# Altium footprint library con-weidmueller-sl35.PCBLIB: 184 footprints (part 9 of 12)
Each footprint in its own frame and in the unit in brackets; x right, y up, seen from the top. Pads: shape width x height; smd on the part's side, far side on the other; paste and mask are expansions set on the pad; w line width, h text height; cw(c..) or ccw(c..) is an arc to the next point about the centre after c.
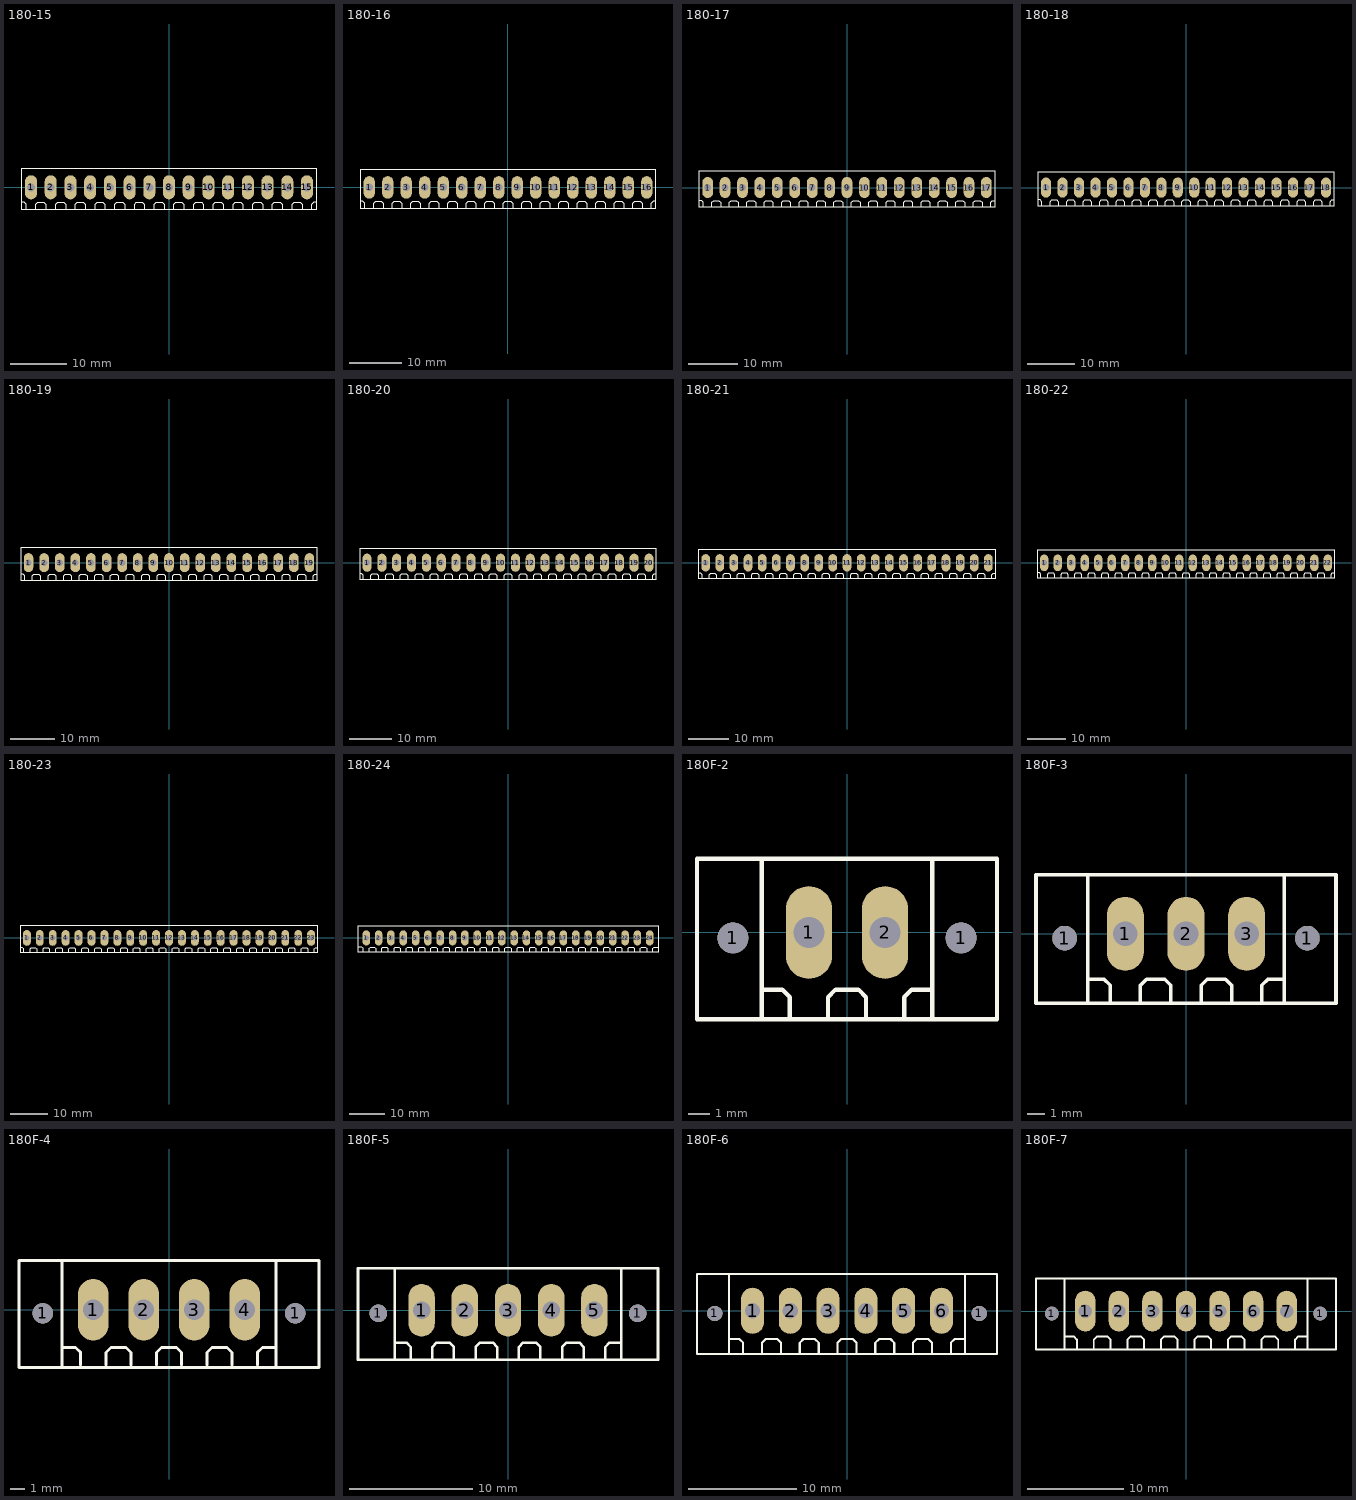
[diagram p8: the footprints below, top view; thin cyan lines are the x and y axes]

## 180-15 [mil]
pads (15):
  oval 84x168 hole 56: 1(-964.57,0) 2(-826.77,0) 3(-688.98,0) 4(-551.18,0) 5(-413.39,0) 6(-275.59,0) 7(-137.8,0) 8(0,0) 9(137.8,0) 10(275.59,0) 11(413.39,0) 12(551.18,0) 13(688.98,0) 14(826.77,0) 15(964.57,0)
Top Overlay:
  lines w8: -1026.57,-103.35 -1012.8,-103.35 -999.02,-117.13 -999.02,-151.57 ; -930.12,-151.57 -930.12,-117.13 -916.34,-103.35 -875,-103.35 -861.22,-117.13 -861.22,-151.57 ; -792.32,-151.57 -792.32,-117.13 -778.54,-103.35 -737.2,-103.35 -723.43,-117.13 -723.43,-151.57 ; -654.53,-151.57 -654.53,-117.13 -640.75,-103.35 -599.41,-103.35 -585.63,-117.13 -585.63,-151.57 ; -516.73,-151.57 -516.73,-117.13 -502.95,-103.35 -461.61,-103.35 -447.83,-117.13 -447.83,-151.57 ; -378.94,-151.57 -378.94,-117.13 -365.16,-103.35 -323.82,-103.35 -310.04,-117.13 -310.04,-151.57 ; -241.14,-151.57 -241.14,-117.13 -227.36,-103.35 -186.02,-103.35 -172.24,-117.13 -172.24,-151.57 ; -103.35,-151.57 -103.35,-117.13 -89.57,-103.35 -48.23,-103.35 -34.45,-117.13 -34.45,-151.57 ; 34.45,-151.57 34.45,-117.13 48.23,-103.35 89.57,-103.35 103.35,-117.13 103.35,-151.57 ; 172.24,-151.57 172.24,-117.13 186.02,-103.35 227.36,-103.35 241.14,-117.13 241.14,-151.57 ; 310.04,-151.57 310.04,-117.13 323.82,-103.35 365.16,-103.35 378.94,-117.13 378.94,-151.57 ; 447.83,-151.57 447.83,-117.13 461.61,-103.35 502.95,-103.35 516.73,-117.13 516.73,-151.57 ; 585.63,-151.57 585.63,-117.13 599.41,-103.35 640.75,-103.35 654.53,-117.13 654.53,-151.57 ; 723.43,-151.57 723.43,-117.13 737.2,-103.35 778.54,-103.35 792.32,-117.13 792.32,-151.57 ; 861.22,-151.57 861.22,-117.13 875,-103.35 916.34,-103.35 930.12,-117.13 930.12,-151.57 ; 999.02,-151.57 999.02,-117.13 1012.8,-103.35 1026.57,-103.35 ; -1029.53,-157.48 1029.53,-157.48 1029.53,133.86 -1029.53,133.86 -1029.53,-157.48

## 180-16 [mil]
pads (16):
  oval 84x168 hole 56: 1(-1033.46,0) 2(-895.67,0) 3(-757.87,0) 4(-620.08,0) 5(-482.28,0) 6(-344.49,0) 7(-206.69,0) 8(-68.9,0) 9(68.9,0) 10(206.69,0) 11(344.49,0) 12(482.28,0) 13(620.08,0) 14(757.87,0) 15(895.67,0) 16(1033.46,0)
Top Overlay:
  lines w8: -1095.47,-103.35 -1081.69,-103.35 -1067.91,-117.13 -1067.91,-151.57 ; -999.02,-151.57 -999.02,-117.13 -985.24,-103.35 -943.9,-103.35 -930.12,-117.13 -930.12,-151.57 ; -861.22,-151.57 -861.22,-117.13 -847.44,-103.35 -806.1,-103.35 -792.32,-117.13 -792.32,-151.57 ; -723.43,-151.57 -723.43,-117.13 -709.65,-103.35 -668.31,-103.35 -654.53,-117.13 -654.53,-151.57 ; -585.63,-151.57 -585.63,-117.13 -571.85,-103.35 -530.51,-103.35 -516.73,-117.13 -516.73,-151.57 ; -447.83,-151.57 -447.83,-117.13 -434.06,-103.35 -392.72,-103.35 -378.94,-117.13 -378.94,-151.57 ; -310.04,-151.57 -310.04,-117.13 -296.26,-103.35 -254.92,-103.35 -241.14,-117.13 -241.14,-151.57 ; -172.24,-151.57 -172.24,-117.13 -158.46,-103.35 -117.13,-103.35 -103.35,-117.13 -103.35,-151.57 ; -34.45,-151.57 -34.45,-117.13 -20.67,-103.35 20.67,-103.35 34.45,-117.13 34.45,-151.57 ; 103.35,-151.57 103.35,-117.13 117.13,-103.35 158.46,-103.35 172.24,-117.13 172.24,-151.57 ; 241.14,-151.57 241.14,-117.13 254.92,-103.35 296.26,-103.35 310.04,-117.13 310.04,-151.57 ; 378.94,-151.57 378.94,-117.13 392.72,-103.35 434.06,-103.35 447.83,-117.13 447.83,-151.57 ; 516.73,-151.57 516.73,-117.13 530.51,-103.35 571.85,-103.35 585.63,-117.13 585.63,-151.57 ; 654.53,-151.57 654.53,-117.13 668.31,-103.35 709.65,-103.35 723.43,-117.13 723.43,-151.57 ; 792.32,-151.57 792.32,-117.13 806.1,-103.35 847.44,-103.35 861.22,-117.13 861.22,-151.57 ; 930.12,-151.57 930.12,-117.13 943.9,-103.35 985.24,-103.35 999.02,-117.13 999.02,-151.57 ; 1067.91,-151.57 1067.91,-117.13 1081.69,-103.35 1095.47,-103.35 ; -1098.43,-157.48 1098.43,-157.48 1098.43,133.86 -1098.43,133.86 -1098.43,-157.48

## 180-17 [mil]
pads (17):
  oval 84x168 hole 56: 1(-1102.36,0) 2(-964.57,0) 3(-826.77,0) 4(-688.98,0) 5(-551.18,0) 6(-413.39,0) 7(-275.59,0) 8(-137.8,0) 9(0,0) 10(137.8,0) 11(275.59,0) 12(413.39,0) 13(551.18,0) 14(688.98,0) 15(826.77,0) 16(964.57,0) 17(1102.36,0)
Top Overlay:
  lines w8: -1164.37,-103.35 -1150.59,-103.35 -1136.81,-117.13 -1136.81,-151.57 ; -1067.91,-151.57 -1067.91,-117.13 -1054.13,-103.35 -1012.8,-103.35 -999.02,-117.13 -999.02,-151.57 ; -930.12,-151.57 -930.12,-117.13 -916.34,-103.35 -875,-103.35 -861.22,-117.13 -861.22,-151.57 ; -792.32,-151.57 -792.32,-117.13 -778.54,-103.35 -737.2,-103.35 -723.43,-117.13 -723.43,-151.57 ; -654.53,-151.57 -654.53,-117.13 -640.75,-103.35 -599.41,-103.35 -585.63,-117.13 -585.63,-151.57 ; -516.73,-151.57 -516.73,-117.13 -502.95,-103.35 -461.61,-103.35 -447.83,-117.13 -447.83,-151.57 ; -378.94,-151.57 -378.94,-117.13 -365.16,-103.35 -323.82,-103.35 -310.04,-117.13 -310.04,-151.57 ; -241.14,-151.57 -241.14,-117.13 -227.36,-103.35 -186.02,-103.35 -172.24,-117.13 -172.24,-151.57 ; -103.35,-151.57 -103.35,-117.13 -89.57,-103.35 -48.23,-103.35 -34.45,-117.13 -34.45,-151.57 ; 34.45,-151.57 34.45,-117.13 48.23,-103.35 89.57,-103.35 103.35,-117.13 103.35,-151.57 ; 172.24,-151.57 172.24,-117.13 186.02,-103.35 227.36,-103.35 241.14,-117.13 241.14,-151.57 ; 310.04,-151.57 310.04,-117.13 323.82,-103.35 365.16,-103.35 378.94,-117.13 378.94,-151.57 ; 447.83,-151.57 447.83,-117.13 461.61,-103.35 502.95,-103.35 516.73,-117.13 516.73,-151.57 ; 585.63,-151.57 585.63,-117.13 599.41,-103.35 640.75,-103.35 654.53,-117.13 654.53,-151.57 ; 723.43,-151.57 723.43,-117.13 737.2,-103.35 778.54,-103.35 792.32,-117.13 792.32,-151.57 ; 861.22,-151.57 861.22,-117.13 875,-103.35 916.34,-103.35 930.12,-117.13 930.12,-151.57 ; 999.02,-151.57 999.02,-117.13 1012.8,-103.35 1054.13,-103.35 1067.91,-117.13 1067.91,-151.57 ; 1136.81,-151.57 1136.81,-117.13 1150.59,-103.35 1164.37,-103.35 ; -1167.32,-157.48 1167.32,-157.48 1167.32,133.86 -1167.32,133.86 -1167.32,-157.48

## 180-18 [mil]
pads (18):
  oval 84x168 hole 56: 1(-1171.26,0) 2(-1033.46,0) 3(-895.67,0) 4(-757.87,0) 5(-620.08,0) 6(-482.28,0) 7(-344.49,0) 8(-206.69,0) 9(-68.9,0) 10(68.9,0) 11(206.69,0) 12(344.49,0) 13(482.28,0) 14(620.08,0) 15(757.87,0) 16(895.67,0) 17(1033.46,0) 18(1171.26,0)
Top Overlay:
  lines w8: -1233.27,-103.35 -1219.49,-103.35 -1205.71,-117.13 -1205.71,-151.57 ; -1136.81,-151.57 -1136.81,-117.13 -1123.03,-103.35 -1081.69,-103.35 -1067.91,-117.13 -1067.91,-151.57 ; -999.02,-151.57 -999.02,-117.13 -985.24,-103.35 -943.9,-103.35 -930.12,-117.13 -930.12,-151.57 ; -861.22,-151.57 -861.22,-117.13 -847.44,-103.35 -806.1,-103.35 -792.32,-117.13 -792.32,-151.57 ; -723.43,-151.57 -723.43,-117.13 -709.65,-103.35 -668.31,-103.35 -654.53,-117.13 -654.53,-151.57 ; -585.63,-151.57 -585.63,-117.13 -571.85,-103.35 -530.51,-103.35 -516.73,-117.13 -516.73,-151.57 ; -447.83,-151.57 -447.83,-117.13 -434.06,-103.35 -392.72,-103.35 -378.94,-117.13 -378.94,-151.57 ; -310.04,-151.57 -310.04,-117.13 -296.26,-103.35 -254.92,-103.35 -241.14,-117.13 -241.14,-151.57 ; -172.24,-151.57 -172.24,-117.13 -158.46,-103.35 -117.13,-103.35 -103.35,-117.13 -103.35,-151.57 ; -34.45,-151.57 -34.45,-117.13 -20.67,-103.35 20.67,-103.35 34.45,-117.13 34.45,-151.57 ; 103.35,-151.57 103.35,-117.13 117.13,-103.35 158.46,-103.35 172.24,-117.13 172.24,-151.57 ; 241.14,-151.57 241.14,-117.13 254.92,-103.35 296.26,-103.35 310.04,-117.13 310.04,-151.57 ; 378.94,-151.57 378.94,-117.13 392.72,-103.35 434.06,-103.35 447.83,-117.13 447.83,-151.57 ; 516.73,-151.57 516.73,-117.13 530.51,-103.35 571.85,-103.35 585.63,-117.13 585.63,-151.57 ; 654.53,-151.57 654.53,-117.13 668.31,-103.35 709.65,-103.35 723.43,-117.13 723.43,-151.57 ; 792.32,-151.57 792.32,-117.13 806.1,-103.35 847.44,-103.35 861.22,-117.13 861.22,-151.57 ; 930.12,-151.57 930.12,-117.13 943.9,-103.35 985.24,-103.35 999.02,-117.13 999.02,-151.57 ; 1067.91,-151.57 1067.91,-117.13 1081.69,-103.35 1123.03,-103.35 1136.81,-117.13 1136.81,-151.57 ; 1205.71,-151.57 1205.71,-117.13 1219.49,-103.35 1233.27,-103.35 ; -1236.22,-157.48 1236.22,-157.48 1236.22,133.86 -1236.22,133.86 -1236.22,-157.48

## 180-19 [mil]
pads (19):
  oval 84x168 hole 56: 1(-1240.16,0) 2(-1102.36,0) 3(-964.57,0) 4(-826.77,0) 5(-688.98,0) 6(-551.18,0) 7(-413.39,0) 8(-275.59,0) 9(-137.8,0) 10(0,0) 11(137.8,0) 12(275.59,0) 13(413.39,0) 14(551.18,0) 15(688.98,0) 16(826.77,0) 17(964.57,0) 18(1102.36,0) 19(1240.16,0)
Top Overlay:
  lines w8: -1302.17,-103.35 -1288.39,-103.35 -1274.61,-117.13 -1274.61,-151.57 ; -1205.71,-151.57 -1205.71,-117.13 -1191.93,-103.35 -1150.59,-103.35 -1136.81,-117.13 -1136.81,-151.57 ; -1067.91,-151.57 -1067.91,-117.13 -1054.13,-103.35 -1012.8,-103.35 -999.02,-117.13 -999.02,-151.57 ; -930.12,-151.57 -930.12,-117.13 -916.34,-103.35 -875,-103.35 -861.22,-117.13 -861.22,-151.57 ; -792.32,-151.57 -792.32,-117.13 -778.54,-103.35 -737.2,-103.35 -723.43,-117.13 -723.43,-151.57 ; -654.53,-151.57 -654.53,-117.13 -640.75,-103.35 -599.41,-103.35 -585.63,-117.13 -585.63,-151.57 ; -516.73,-151.57 -516.73,-117.13 -502.95,-103.35 -461.61,-103.35 -447.83,-117.13 -447.83,-151.57 ; -378.94,-151.57 -378.94,-117.13 -365.16,-103.35 -323.82,-103.35 -310.04,-117.13 -310.04,-151.57 ; -241.14,-151.57 -241.14,-117.13 -227.36,-103.35 -186.02,-103.35 -172.24,-117.13 -172.24,-151.57 ; -103.35,-151.57 -103.35,-117.13 -89.57,-103.35 -48.23,-103.35 -34.45,-117.13 -34.45,-151.57 ; 34.45,-151.57 34.45,-117.13 48.23,-103.35 89.57,-103.35 103.35,-117.13 103.35,-151.57 ; 172.24,-151.57 172.24,-117.13 186.02,-103.35 227.36,-103.35 241.14,-117.13 241.14,-151.57 ; 310.04,-151.57 310.04,-117.13 323.82,-103.35 365.16,-103.35 378.94,-117.13 378.94,-151.57 ; 447.83,-151.57 447.83,-117.13 461.61,-103.35 502.95,-103.35 516.73,-117.13 516.73,-151.57 ; 585.63,-151.57 585.63,-117.13 599.41,-103.35 640.75,-103.35 654.53,-117.13 654.53,-151.57 ; 723.43,-151.57 723.43,-117.13 737.2,-103.35 778.54,-103.35 792.32,-117.13 792.32,-151.57 ; 861.22,-151.57 861.22,-117.13 875,-103.35 916.34,-103.35 930.12,-117.13 930.12,-151.57 ; 999.02,-151.57 999.02,-117.13 1012.8,-103.35 1054.13,-103.35 1067.91,-117.13 1067.91,-151.57 ; 1136.81,-151.57 1136.81,-117.13 1150.59,-103.35 1191.93,-103.35 1205.71,-117.13 1205.71,-151.57 ; 1274.61,-151.57 1274.61,-117.13 1288.39,-103.35 1302.17,-103.35 ; -1305.12,-157.48 1305.12,-157.48 1305.12,133.86 -1305.12,133.86 -1305.12,-157.48

## 180-20 [mil]
pads (20):
  oval 84x168 hole 56: 1(-1309.06,0) 2(-1171.26,0) 3(-1033.46,0) 4(-895.67,0) 5(-757.87,0) 6(-620.08,0) 7(-482.28,0) 8(-344.49,0) 9(-206.69,0) 10(-68.9,0) 11(68.9,0) 12(206.69,0) 13(344.49,0) 14(482.28,0) 15(620.08,0) 16(757.87,0) 17(895.67,0) 18(1033.46,0) 19(1171.26,0) 20(1309.06,0)
Top Overlay:
  lines w8: -1371.06,-103.35 -1357.28,-103.35 -1343.5,-117.13 -1343.5,-151.57 ; -1274.61,-151.57 -1274.61,-117.13 -1260.83,-103.35 -1219.49,-103.35 -1205.71,-117.13 -1205.71,-151.57 ; -1136.81,-151.57 -1136.81,-117.13 -1123.03,-103.35 -1081.69,-103.35 -1067.91,-117.13 -1067.91,-151.57 ; -999.02,-151.57 -999.02,-117.13 -985.24,-103.35 -943.9,-103.35 -930.12,-117.13 -930.12,-151.57 ; -861.22,-151.57 -861.22,-117.13 -847.44,-103.35 -806.1,-103.35 -792.32,-117.13 -792.32,-151.57 ; -723.43,-151.57 -723.43,-117.13 -709.65,-103.35 -668.31,-103.35 -654.53,-117.13 -654.53,-151.57 ; -585.63,-151.57 -585.63,-117.13 -571.85,-103.35 -530.51,-103.35 -516.73,-117.13 -516.73,-151.57 ; -447.83,-151.57 -447.83,-117.13 -434.06,-103.35 -392.72,-103.35 -378.94,-117.13 -378.94,-151.57 ; -310.04,-151.57 -310.04,-117.13 -296.26,-103.35 -254.92,-103.35 -241.14,-117.13 -241.14,-151.57 ; -172.24,-151.57 -172.24,-117.13 -158.46,-103.35 -117.13,-103.35 -103.35,-117.13 -103.35,-151.57 ; -34.45,-151.57 -34.45,-117.13 -20.67,-103.35 20.67,-103.35 34.45,-117.13 34.45,-151.57 ; 103.35,-151.57 103.35,-117.13 117.13,-103.35 158.46,-103.35 172.24,-117.13 172.24,-151.57 ; 241.14,-151.57 241.14,-117.13 254.92,-103.35 296.26,-103.35 310.04,-117.13 310.04,-151.57 ; 378.94,-151.57 378.94,-117.13 392.72,-103.35 434.06,-103.35 447.83,-117.13 447.83,-151.57 ; 516.73,-151.57 516.73,-117.13 530.51,-103.35 571.85,-103.35 585.63,-117.13 585.63,-151.57 ; 654.53,-151.57 654.53,-117.13 668.31,-103.35 709.65,-103.35 723.43,-117.13 723.43,-151.57 ; 792.32,-151.57 792.32,-117.13 806.1,-103.35 847.44,-103.35 861.22,-117.13 861.22,-151.57 ; 930.12,-151.57 930.12,-117.13 943.9,-103.35 985.24,-103.35 999.02,-117.13 999.02,-151.57 ; 1067.91,-151.57 1067.91,-117.13 1081.69,-103.35 1123.03,-103.35 1136.81,-117.13 1136.81,-151.57 ; 1205.71,-151.57 1205.71,-117.13 1219.49,-103.35 1260.83,-103.35 1274.61,-117.13 1274.61,-151.57 ; 1343.5,-151.57 1343.5,-117.13 1357.28,-103.35 1371.06,-103.35 ; -1374.02,-157.48 1374.02,-157.48 1374.02,133.86 -1374.02,133.86 -1374.02,-157.48

## 180-21 [mil]
pads (21):
  oval 84x168 hole 56: 1(-1377.95,0) 2(-1240.16,0) 3(-1102.36,0) 4(-964.57,0) 5(-826.77,0) 6(-688.98,0) 7(-551.18,0) 8(-413.39,0) 9(-275.59,0) 10(-137.8,0) 11(0,0) 12(137.8,0) 13(275.59,0) 14(413.39,0) 15(551.18,0) 16(688.98,0) 17(826.77,0) 18(964.57,0) 19(1102.36,0) 20(1240.16,0) 21(1377.95,0)
Top Overlay:
  lines w8: -1439.96,-103.35 -1426.18,-103.35 -1412.4,-117.13 -1412.4,-151.57 ; -1343.5,-151.57 -1343.5,-117.13 -1329.72,-103.35 -1288.39,-103.35 -1274.61,-117.13 -1274.61,-151.57 ; -1205.71,-151.57 -1205.71,-117.13 -1191.93,-103.35 -1150.59,-103.35 -1136.81,-117.13 -1136.81,-151.57 ; -1067.91,-151.57 -1067.91,-117.13 -1054.13,-103.35 -1012.8,-103.35 -999.02,-117.13 -999.02,-151.57 ; -930.12,-151.57 -930.12,-117.13 -916.34,-103.35 -875,-103.35 -861.22,-117.13 -861.22,-151.57 ; -792.32,-151.57 -792.32,-117.13 -778.54,-103.35 -737.2,-103.35 -723.43,-117.13 -723.43,-151.57 ; -654.53,-151.57 -654.53,-117.13 -640.75,-103.35 -599.41,-103.35 -585.63,-117.13 -585.63,-151.57 ; -516.73,-151.57 -516.73,-117.13 -502.95,-103.35 -461.61,-103.35 -447.83,-117.13 -447.83,-151.57 ; -378.94,-151.57 -378.94,-117.13 -365.16,-103.35 -323.82,-103.35 -310.04,-117.13 -310.04,-151.57 ; -241.14,-151.57 -241.14,-117.13 -227.36,-103.35 -186.02,-103.35 -172.24,-117.13 -172.24,-151.57 ; -103.35,-151.57 -103.35,-117.13 -89.57,-103.35 -48.23,-103.35 -34.45,-117.13 -34.45,-151.57 ; 34.45,-151.57 34.45,-117.13 48.23,-103.35 89.57,-103.35 103.35,-117.13 103.35,-151.57 ; 172.24,-151.57 172.24,-117.13 186.02,-103.35 227.36,-103.35 241.14,-117.13 241.14,-151.57 ; 310.04,-151.57 310.04,-117.13 323.82,-103.35 365.16,-103.35 378.94,-117.13 378.94,-151.57 ; 447.83,-151.57 447.83,-117.13 461.61,-103.35 502.95,-103.35 516.73,-117.13 516.73,-151.57 ; 585.63,-151.57 585.63,-117.13 599.41,-103.35 640.75,-103.35 654.53,-117.13 654.53,-151.57 ; 723.43,-151.57 723.43,-117.13 737.2,-103.35 778.54,-103.35 792.32,-117.13 792.32,-151.57 ; 861.22,-151.57 861.22,-117.13 875,-103.35 916.34,-103.35 930.12,-117.13 930.12,-151.57 ; 999.02,-151.57 999.02,-117.13 1012.8,-103.35 1054.13,-103.35 1067.91,-117.13 1067.91,-151.57 ; 1136.81,-151.57 1136.81,-117.13 1150.59,-103.35 1191.93,-103.35 1205.71,-117.13 1205.71,-151.57 ; 1274.61,-151.57 1274.61,-117.13 1288.39,-103.35 1329.72,-103.35 1343.5,-117.13 1343.5,-151.57 ; 1412.4,-151.57 1412.4,-117.13 1426.18,-103.35 1439.96,-103.35 ; -1442.91,-157.48 1442.91,-157.48 1442.91,133.86 -1442.91,133.86 -1442.91,-157.48

## 180-22 [mil]
pads (22):
  oval 84x168 hole 56: 1(-1446.85,0) 2(-1309.06,0) 3(-1171.26,0) 4(-1033.46,0) 5(-895.67,0) 6(-757.87,0) 7(-620.08,0) 8(-482.28,0) 9(-344.49,0) 10(-206.69,0) 11(-68.9,0) 12(68.9,0) 13(206.69,0) 14(344.49,0) 15(482.28,0) 16(620.08,0) 17(757.87,0) 18(895.67,0) 19(1033.46,0) 20(1171.26,0) 21(1309.06,0) 22(1446.85,0)
Top Overlay:
  lines w8: -1508.86,-103.35 -1495.08,-103.35 -1481.3,-117.13 -1481.3,-151.57 ; -1412.4,-151.57 -1412.4,-117.13 -1398.62,-103.35 -1357.28,-103.35 -1343.5,-117.13 -1343.5,-151.57 ; -1274.61,-151.57 -1274.61,-117.13 -1260.83,-103.35 -1219.49,-103.35 -1205.71,-117.13 -1205.71,-151.57 ; -1136.81,-151.57 -1136.81,-117.13 -1123.03,-103.35 -1081.69,-103.35 -1067.91,-117.13 -1067.91,-151.57 ; -999.02,-151.57 -999.02,-117.13 -985.24,-103.35 -943.9,-103.35 -930.12,-117.13 -930.12,-151.57 ; -861.22,-151.57 -861.22,-117.13 -847.44,-103.35 -806.1,-103.35 -792.32,-117.13 -792.32,-151.57 ; -723.43,-151.57 -723.43,-117.13 -709.65,-103.35 -668.31,-103.35 -654.53,-117.13 -654.53,-151.57 ; -585.63,-151.57 -585.63,-117.13 -571.85,-103.35 -530.51,-103.35 -516.73,-117.13 -516.73,-151.57 ; -447.83,-151.57 -447.83,-117.13 -434.06,-103.35 -392.72,-103.35 -378.94,-117.13 -378.94,-151.57 ; -310.04,-151.57 -310.04,-117.13 -296.26,-103.35 -254.92,-103.35 -241.14,-117.13 -241.14,-151.57 ; -172.24,-151.57 -172.24,-117.13 -158.46,-103.35 -117.13,-103.35 -103.35,-117.13 -103.35,-151.57 ; -34.45,-151.57 -34.45,-117.13 -20.67,-103.35 20.67,-103.35 34.45,-117.13 34.45,-151.57 ; 103.35,-151.57 103.35,-117.13 117.13,-103.35 158.46,-103.35 172.24,-117.13 172.24,-151.57 ; 241.14,-151.57 241.14,-117.13 254.92,-103.35 296.26,-103.35 310.04,-117.13 310.04,-151.57 ; 378.94,-151.57 378.94,-117.13 392.72,-103.35 434.06,-103.35 447.83,-117.13 447.83,-151.57 ; 516.73,-151.57 516.73,-117.13 530.51,-103.35 571.85,-103.35 585.63,-117.13 585.63,-151.57 ; 654.53,-151.57 654.53,-117.13 668.31,-103.35 709.65,-103.35 723.43,-117.13 723.43,-151.57 ; 792.32,-151.57 792.32,-117.13 806.1,-103.35 847.44,-103.35 861.22,-117.13 861.22,-151.57 ; 930.12,-151.57 930.12,-117.13 943.9,-103.35 985.24,-103.35 999.02,-117.13 999.02,-151.57 ; 1067.91,-151.57 1067.91,-117.13 1081.69,-103.35 1123.03,-103.35 1136.81,-117.13 1136.81,-151.57 ; 1205.71,-151.57 1205.71,-117.13 1219.49,-103.35 1260.83,-103.35 1274.61,-117.13 1274.61,-151.57 ; 1343.5,-151.57 1343.5,-117.13 1357.28,-103.35 1398.62,-103.35 1412.4,-117.13 1412.4,-151.57 ; 1481.3,-151.57 1481.3,-117.13 1495.08,-103.35 1508.86,-103.35 ; -1511.81,-157.48 1511.81,-157.48 1511.81,133.86 -1511.81,133.86 -1511.81,-157.48

## 180-23 [mil]
pads (23):
  oval 84x168 hole 56: 1(-1515.75,0) 2(-1377.95,0) 3(-1240.16,0) 4(-1102.36,0) 5(-964.57,0) 6(-826.77,0) 7(-688.98,0) 8(-551.18,0) 9(-413.39,0) 10(-275.59,0) 11(-137.8,0) 12(0,0) 13(137.8,0) 14(275.59,0) 15(413.39,0) 16(551.18,0) 17(688.98,0) 18(826.77,0) 19(964.57,0) 20(1102.36,0) 21(1240.16,0) 22(1377.95,0) 23(1515.75,0)
Top Overlay:
  lines w8: -1577.76,-103.35 -1563.98,-103.35 -1550.2,-117.13 -1550.2,-151.57 ; -1481.3,-151.57 -1481.3,-117.13 -1467.52,-103.35 -1426.18,-103.35 -1412.4,-117.13 -1412.4,-151.57 ; -1343.5,-151.57 -1343.5,-117.13 -1329.72,-103.35 -1288.39,-103.35 -1274.61,-117.13 -1274.61,-151.57 ; -1205.71,-151.57 -1205.71,-117.13 -1191.93,-103.35 -1150.59,-103.35 -1136.81,-117.13 -1136.81,-151.57 ; -1067.91,-151.57 -1067.91,-117.13 -1054.13,-103.35 -1012.8,-103.35 -999.02,-117.13 -999.02,-151.57 ; -930.12,-151.57 -930.12,-117.13 -916.34,-103.35 -875,-103.35 -861.22,-117.13 -861.22,-151.57 ; -792.32,-151.57 -792.32,-117.13 -778.54,-103.35 -737.2,-103.35 -723.43,-117.13 -723.43,-151.57 ; -654.53,-151.57 -654.53,-117.13 -640.75,-103.35 -599.41,-103.35 -585.63,-117.13 -585.63,-151.57 ; -516.73,-151.57 -516.73,-117.13 -502.95,-103.35 -461.61,-103.35 -447.83,-117.13 -447.83,-151.57 ; -378.94,-151.57 -378.94,-117.13 -365.16,-103.35 -323.82,-103.35 -310.04,-117.13 -310.04,-151.57 ; -241.14,-151.57 -241.14,-117.13 -227.36,-103.35 -186.02,-103.35 -172.24,-117.13 -172.24,-151.57 ; -103.35,-151.57 -103.35,-117.13 -89.57,-103.35 -48.23,-103.35 -34.45,-117.13 -34.45,-151.57 ; 34.45,-151.57 34.45,-117.13 48.23,-103.35 89.57,-103.35 103.35,-117.13 103.35,-151.57 ; 172.24,-151.57 172.24,-117.13 186.02,-103.35 227.36,-103.35 241.14,-117.13 241.14,-151.57 ; 310.04,-151.57 310.04,-117.13 323.82,-103.35 365.16,-103.35 378.94,-117.13 378.94,-151.57 ; 447.83,-151.57 447.83,-117.13 461.61,-103.35 502.95,-103.35 516.73,-117.13 516.73,-151.57 ; 585.63,-151.57 585.63,-117.13 599.41,-103.35 640.75,-103.35 654.53,-117.13 654.53,-151.57 ; 723.43,-151.57 723.43,-117.13 737.2,-103.35 778.54,-103.35 792.32,-117.13 792.32,-151.57 ; 861.22,-151.57 861.22,-117.13 875,-103.35 916.34,-103.35 930.12,-117.13 930.12,-151.57 ; 999.02,-151.57 999.02,-117.13 1012.8,-103.35 1054.13,-103.35 1067.91,-117.13 1067.91,-151.57 ; 1136.81,-151.57 1136.81,-117.13 1150.59,-103.35 1191.93,-103.35 1205.71,-117.13 1205.71,-151.57 ; 1274.61,-151.57 1274.61,-117.13 1288.39,-103.35 1329.72,-103.35 1343.5,-117.13 1343.5,-151.57 ; 1412.4,-151.57 1412.4,-117.13 1426.18,-103.35 1467.52,-103.35 1481.3,-117.13 1481.3,-151.57 ; 1550.2,-151.57 1550.2,-117.13 1563.98,-103.35 1577.76,-103.35 ; -1580.71,-157.48 1580.71,-157.48 1580.71,133.86 -1580.71,133.86 -1580.71,-157.48

## 180-24 [mil]
pads (24):
  oval 84x168 hole 56: 1(-1584.65,0) 2(-1446.85,0) 3(-1309.06,0) 4(-1171.26,0) 5(-1033.46,0) 6(-895.67,0) 7(-757.87,0) 8(-620.08,0) 9(-482.28,0) 10(-344.49,0) 11(-206.69,0) 12(-68.9,0) 13(68.9,0) 14(206.69,0) 15(344.49,0) 16(482.28,0) 17(620.08,0) 18(757.87,0) 19(895.67,0) 20(1033.46,0) 21(1171.26,0) 22(1309.06,0) 23(1446.85,0) 24(1584.65,0)
Top Overlay:
  lines w8: -1674.21,-103.35 -1632.87,-103.35 -1619.09,-117.13 -1619.09,-151.57 ; -1550.2,-151.57 -1550.2,-117.13 -1536.42,-103.35 -1495.08,-103.35 -1481.3,-117.13 -1481.3,-151.57 ; -1412.4,-151.57 -1412.4,-117.13 -1398.62,-103.35 -1357.28,-103.35 -1343.5,-117.13 -1343.5,-151.57 ; -1274.61,-151.57 -1274.61,-117.13 -1260.83,-103.35 -1219.49,-103.35 -1205.71,-117.13 -1205.71,-151.57 ; -1136.81,-151.57 -1136.81,-117.13 -1123.03,-103.35 -1081.69,-103.35 -1067.91,-117.13 -1067.91,-151.57 ; -999.02,-151.57 -999.02,-117.13 -985.24,-103.35 -943.9,-103.35 -930.12,-117.13 -930.12,-151.57 ; -861.22,-151.57 -861.22,-117.13 -847.44,-103.35 -806.1,-103.35 -792.32,-117.13 -792.32,-151.57 ; -723.43,-151.57 -723.43,-117.13 -709.65,-103.35 -668.31,-103.35 -654.53,-117.13 -654.53,-151.57 ; -585.63,-151.57 -585.63,-117.13 -571.85,-103.35 -530.51,-103.35 -516.73,-117.13 -516.73,-151.57 ; -447.83,-151.57 -447.83,-117.13 -434.06,-103.35 -392.72,-103.35 -378.94,-117.13 -378.94,-151.57 ; -310.04,-151.57 -310.04,-117.13 -296.26,-103.35 -254.92,-103.35 -241.14,-117.13 -241.14,-151.57 ; -172.24,-151.57 -172.24,-117.13 -158.46,-103.35 -117.13,-103.35 -103.35,-117.13 -103.35,-151.57 ; -34.45,-151.57 -34.45,-117.13 -20.67,-103.35 20.67,-103.35 34.45,-117.13 34.45,-151.57 ; 103.35,-151.57 103.35,-117.13 117.13,-103.35 158.46,-103.35 172.24,-117.13 172.24,-151.57 ; 241.14,-151.57 241.14,-117.13 254.92,-103.35 296.26,-103.35 310.04,-117.13 310.04,-151.57 ; 378.94,-151.57 378.94,-117.13 392.72,-103.35 434.06,-103.35 447.83,-117.13 447.83,-151.57 ; 516.73,-151.57 516.73,-117.13 530.51,-103.35 571.85,-103.35 585.63,-117.13 585.63,-151.57 ; 654.53,-151.57 654.53,-117.13 668.31,-103.35 709.65,-103.35 723.43,-117.13 723.43,-151.57 ; 792.32,-151.57 792.32,-117.13 806.1,-103.35 847.44,-103.35 861.22,-117.13 861.22,-151.57 ; 930.12,-151.57 930.12,-117.13 943.9,-103.35 985.24,-103.35 999.02,-117.13 999.02,-151.57 ; 1067.91,-151.57 1067.91,-117.13 1081.69,-103.35 1123.03,-103.35 1136.81,-117.13 1136.81,-151.57 ; 1205.71,-151.57 1205.71,-117.13 1219.49,-103.35 1260.83,-103.35 1274.61,-117.13 1274.61,-151.57 ; 1343.5,-151.57 1343.5,-117.13 1357.28,-103.35 1398.62,-103.35 1412.4,-117.13 1412.4,-151.57 ; 1481.3,-151.57 1481.3,-117.13 1495.08,-103.35 1536.42,-103.35 1550.2,-117.13 1550.2,-151.57 ; 1619.09,-151.57 1619.09,-117.13 1632.87,-103.35 1674.21,-103.35 ; -1677.17,-157.48 1677.17,-157.48 1677.17,133.86 -1677.17,133.86 -1677.17,-157.48

## 180F-2 [mil]
pads (4):
  round 56 hole 56: 1(-206.69,-9.84) 1(206.69,-9.84)
  oval 84x168 hole 56: 1(-68.9,0) 2(68.9,0)
Top Overlay:
  lines w8: -151.57,-103.35 -117.13,-103.35 -103.35,-117.13 -103.35,-151.57 ; -34.45,-151.57 -34.45,-117.13 -20.67,-103.35 20.67,-103.35 34.45,-117.13 34.45,-151.57 ; 103.35,-151.57 103.35,-117.13 117.13,-103.35 151.57,-103.35 ; -154.53,-157.48 154.53,-157.48 ; -154.53,-157.48 -271.65,-157.48 -271.65,133.86 -154.53,133.86 ; -154.53,-157.48 -154.53,133.86 ; -154.53,133.86 154.53,133.86 ; 154.53,-157.48 271.65,-157.48 271.65,133.86 154.53,133.86 ; 154.53,-157.48 154.53,133.86

## 180F-3 [mil]
pads (5):
  round 56 hole 56: 1(-275.59,-9.84) 1(275.59,-9.84)
  oval 84x168 hole 56: 1(-137.8,0) 2(0,0) 3(137.8,0)
Top Overlay:
  lines w8: -220.47,-103.35 -186.02,-103.35 -172.24,-117.13 -172.24,-151.57 ; -103.35,-151.57 -103.35,-117.13 -89.57,-103.35 -48.23,-103.35 -34.45,-117.13 -34.45,-151.57 ; 34.45,-151.57 34.45,-117.13 48.23,-103.35 89.57,-103.35 103.35,-117.13 103.35,-151.57 ; 172.24,-151.57 172.24,-117.13 186.02,-103.35 220.47,-103.35 ; -223.43,-157.48 223.43,-157.48 ; -223.43,-157.48 -340.55,-157.48 -340.55,133.86 -223.43,133.86 ; -223.43,-157.48 -223.43,133.86 ; -223.43,133.86 223.43,133.86 ; 223.43,-157.48 340.55,-157.48 340.55,133.86 223.43,133.86 ; 223.43,-157.48 223.43,133.86

## 180F-4 [mil]
pads (6):
  round 56 hole 56: 1(-344.49,-9.84) 1(344.49,-9.84)
  oval 84x168 hole 56: 1(-206.69,0) 2(-68.9,0) 3(68.9,0) 4(206.69,0)
Top Overlay:
  lines w8: -289.37,-103.35 -254.92,-103.35 -241.14,-117.13 -241.14,-151.57 ; -172.24,-151.57 -172.24,-117.13 -158.46,-103.35 -117.13,-103.35 -103.35,-117.13 -103.35,-151.57 ; -34.45,-151.57 -34.45,-117.13 -20.67,-103.35 20.67,-103.35 34.45,-117.13 34.45,-151.57 ; 103.35,-151.57 103.35,-117.13 117.13,-103.35 158.46,-103.35 172.24,-117.13 172.24,-151.57 ; 241.14,-151.57 241.14,-117.13 254.92,-103.35 289.37,-103.35 ; -292.32,-157.48 292.32,-157.48 ; -292.32,-157.48 -409.45,-157.48 -409.45,133.86 -292.32,133.86 ; -292.32,-157.48 -292.32,133.86 ; -292.32,133.86 292.32,133.86 ; 292.32,-157.48 409.45,-157.48 409.45,133.86 292.32,133.86 ; 292.32,-157.48 292.32,133.86

## 180F-5 [mil]
pads (7):
  round 56 hole 56: 1(-413.39,-9.84) 1(413.39,-9.84)
  oval 84x168 hole 56: 1(-275.59,0) 2(-137.8,0) 3(0,0) 4(137.8,0) 5(275.59,0)
Top Overlay:
  lines w8: -358.27,-103.35 -323.82,-103.35 -310.04,-117.13 -310.04,-151.57 ; -241.14,-151.57 -241.14,-117.13 -227.36,-103.35 -186.02,-103.35 -172.24,-117.13 -172.24,-151.57 ; -103.35,-151.57 -103.35,-117.13 -89.57,-103.35 -48.23,-103.35 -34.45,-117.13 -34.45,-151.57 ; 34.45,-151.57 34.45,-117.13 48.23,-103.35 89.57,-103.35 103.35,-117.13 103.35,-151.57 ; 172.24,-151.57 172.24,-117.13 186.02,-103.35 227.36,-103.35 241.14,-117.13 241.14,-151.57 ; 310.04,-151.57 310.04,-117.13 323.82,-103.35 358.27,-103.35 ; -361.22,-157.48 361.22,-157.48 ; -361.22,-157.48 -478.35,-157.48 -478.35,133.86 -361.22,133.86 ; -361.22,-157.48 -361.22,133.86 ; -361.22,133.86 361.22,133.86 ; 361.22,-157.48 478.35,-157.48 478.35,133.86 361.22,133.86 ; 361.22,-157.48 361.22,133.86

## 180F-6 [mil]
pads (8):
  round 56 hole 56: 1(-482.28,-9.84) 1(482.28,-9.84)
  oval 84x168 hole 56: 1(-344.49,0) 2(-206.69,0) 3(-68.9,0) 4(68.9,0) 5(206.69,0) 6(344.49,0)
Top Overlay:
  lines w8: -427.17,-103.35 -392.72,-103.35 -378.94,-117.13 -378.94,-151.57 ; -310.04,-151.57 -310.04,-117.13 -296.26,-103.35 -254.92,-103.35 -241.14,-117.13 -241.14,-151.57 ; -172.24,-151.57 -172.24,-117.13 -158.46,-103.35 -117.13,-103.35 -103.35,-117.13 -103.35,-151.57 ; -34.45,-151.57 -34.45,-117.13 -20.67,-103.35 20.67,-103.35 34.45,-117.13 34.45,-151.57 ; 103.35,-151.57 103.35,-117.13 117.13,-103.35 158.46,-103.35 172.24,-117.13 172.24,-151.57 ; 241.14,-151.57 241.14,-117.13 254.92,-103.35 296.26,-103.35 310.04,-117.13 310.04,-151.57 ; 378.94,-151.57 378.94,-117.13 392.72,-103.35 427.17,-103.35 ; -430.12,-157.48 430.12,-157.48 ; -430.12,-157.48 -547.24,-157.48 -547.24,133.86 -430.12,133.86 ; -430.12,-157.48 -430.12,133.86 ; -430.12,133.86 430.12,133.86 ; 430.12,-157.48 547.24,-157.48 547.24,133.86 430.12,133.86 ; 430.12,-157.48 430.12,133.86

## 180F-7 [mil]
pads (9):
  round 56 hole 56: 1(-551.18,-9.84) 1(551.18,-9.84)
  oval 84x168 hole 56: 1(-413.39,0) 2(-275.59,0) 3(-137.8,0) 4(0,0) 5(137.8,0) 6(275.59,0) 7(413.39,0)
Top Overlay:
  lines w8: -496.06,-103.35 -461.61,-103.35 -447.83,-117.13 -447.83,-151.57 ; -378.94,-151.57 -378.94,-117.13 -365.16,-103.35 -323.82,-103.35 -310.04,-117.13 -310.04,-151.57 ; -241.14,-151.57 -241.14,-117.13 -227.36,-103.35 -186.02,-103.35 -172.24,-117.13 -172.24,-151.57 ; -103.35,-151.57 -103.35,-117.13 -89.57,-103.35 -48.23,-103.35 -34.45,-117.13 -34.45,-151.57 ; 34.45,-151.57 34.45,-117.13 48.23,-103.35 89.57,-103.35 103.35,-117.13 103.35,-151.57 ; 172.24,-151.57 172.24,-117.13 186.02,-103.35 227.36,-103.35 241.14,-117.13 241.14,-151.57 ; 310.04,-151.57 310.04,-117.13 323.82,-103.35 365.16,-103.35 378.94,-117.13 378.94,-151.57 ; 447.83,-151.57 447.83,-117.13 461.61,-103.35 496.06,-103.35 ; -499.02,-157.48 499.02,-157.48 ; -499.02,-157.48 -616.14,-157.48 -616.14,133.86 -499.02,133.86 ; -499.02,-157.48 -499.02,133.86 ; -499.02,133.86 499.02,133.86 ; 499.02,-157.48 616.14,-157.48 616.14,133.86 499.02,133.86 ; 499.02,-157.48 499.02,133.86